# Altium schematic symbol library RELAY-G5SB.Schlib: 1 symbol
Pins are listed as number, name and electrical type; pins without a type are passive.

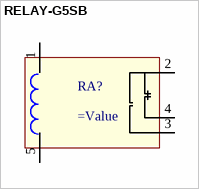
[diagram p0: symbol RELAY-G5SB]

## RELAY-G5SB
designator RA?
=Description
pins: 1 (power), 2, 3, 4, 5 (power)